# Altium footprint library Artemis_Plus.PcbLib: 25 footprints (part 2 of 2)
Each footprint in its own frame and in the unit in brackets; x right, y up, seen from the top. Pads: shape width x height; smd on the part's side, far side on the other; paste and mask are expansions set on the pad; w line width, h text height; cw(c..) or ccw(c..) is an arc to the next point about the centre after c.
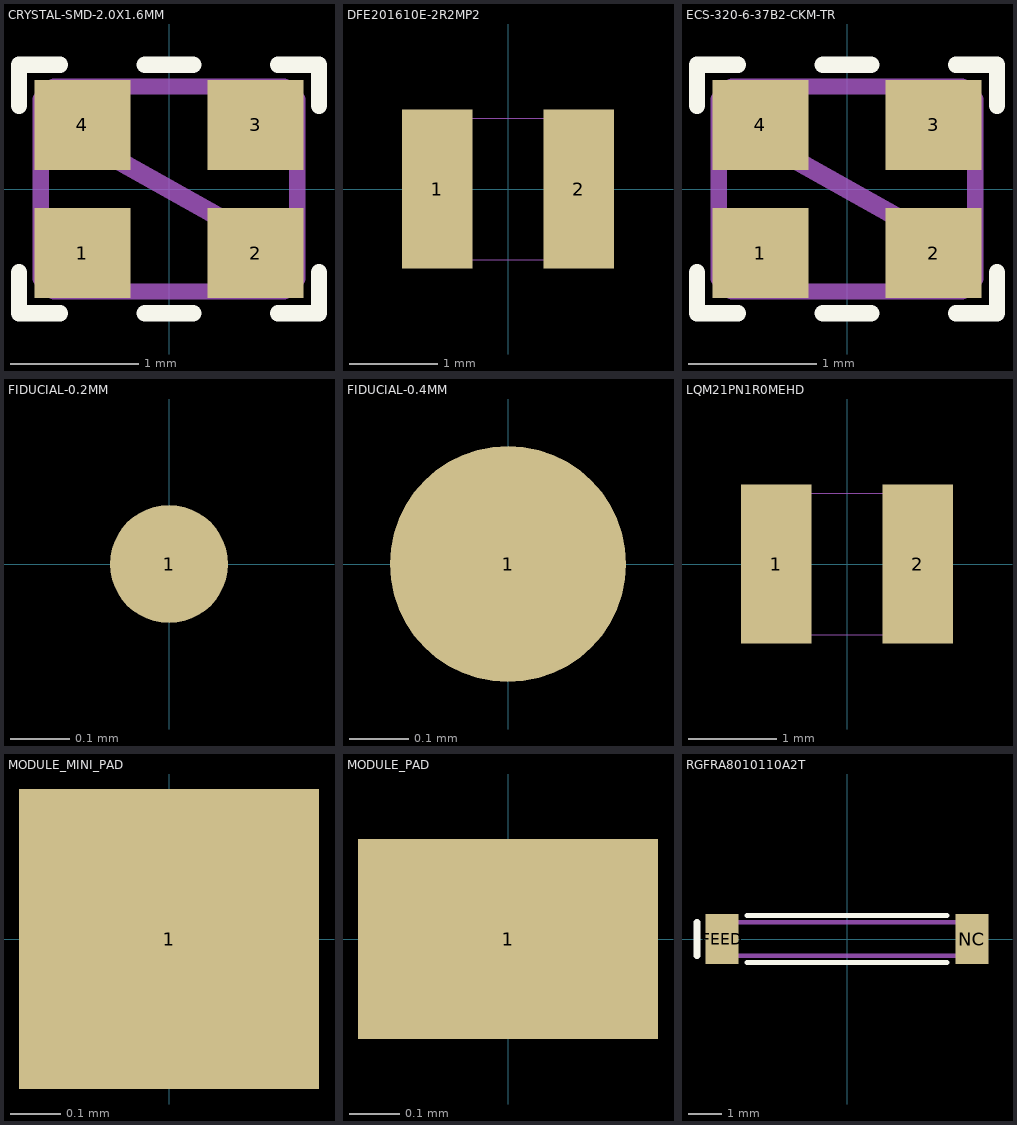
[diagram p1: the footprints below, top view; thin cyan lines are the x and y axes]

## CRYSTAL-SMD-2.0X1.6MM [mm] "CRYSTAL-SMD-2.0X1.6MM"
pads (4):
  rect 0.75x0.7 smd: 1(-0.675,-0.5) 2(0.675,-0.5) 3(0.675,0.5) 4(-0.675,0.5)
Top Overlay:
  lines w0.127: -1.17,-0.65 -1.17,-0.97 -0.85,-0.97 ; -1.17,0.65 -1.17,0.97 -0.85,0.97 ; -0.19,-0.97 0.19,-0.97 ; -0.19,0.97 0.19,0.97 ; 0.85,-0.97 1.17,-0.97 1.17,-0.65 ; 0.85,0.97 1.17,0.97 1.17,0.65
Top Component Outline (Mech3):
  region: 0.4,0.2 0.4,0.7 0.65,0.7 0.65,0.8 0.9,0.8 0.902,0.781 0.917,0.744 0.944,0.717 0.98,0.702 1,0.7 1,0.45 0.9,0.45 0.9,0.2
  region: -0.4,-0.2 -0.4,-0.7 -0.65,-0.7 -0.65,-0.8 -0.9,-0.8 -0.902,-0.781 -0.917,-0.745 -0.944,-0.717 -0.98,-0.702 -1,-0.7 -1,-0.45 -0.9,-0.45 -0.9,-0.2
  region: 0.4,-0.2 0.4,-0.7 0.65,-0.7 0.65,-0.8 0.9,-0.8 0.902,-0.781 0.917,-0.745 0.944,-0.717 0.98,-0.702 1,-0.7 1,-0.45 0.9,-0.45 0.9,-0.2
  region: -0.4,0.2 -0.4,0.7 -0.65,0.7 -0.65,0.8 -0.9,0.8 -0.902,0.781 -0.917,0.744 -0.944,0.717 -0.98,0.702 -1,0.7 -1,0.45 -0.9,0.45 -0.9,0.2
  region: 0.506,-0.2 -0.4,0.306 -0.506,0.2 0.4,-0.306
  lines w0.127: -1,-0.7 cw(c-1,-0.8) -0.9,-0.8 0.9,-0.8 cw(c1,-0.8) 1,-0.7 1,0.7 cw(c1,0.8) 0.9,0.8 -0.9,0.8 cw(c-1,0.8) -1,0.7 -1,-0.7

## DFE201610E-2R2MP2 [mil] "DFE201610E-2R2MP2 footprint"
pads (2):
  rect 31.5x70.87 smd: 1(-31.5,0) 2(31.5,0)
Top Component Outline (Mech3):
  lines w0.1: -39.37,-31.5 39.37,-31.5 39.37,31.5 -39.37,31.5 -39.37,-31.5
3D body "Ind_Murata_1285AS-H-1R0M=P2_eec.STEP": height 10, standoff 0, extent -84.76,-57.21 84.77,57.21

## ECS-320-6-37B2-CKM-TR [mm] "ECS-320-6-37B2-CKM-TR Footprint"
pads (4):
  rect 0.75x0.7 smd: 1(-0.675,-0.5) 2(0.675,-0.5) 3(0.675,0.5) 4(-0.675,0.5)
Top Overlay:
  lines w0.127: -1.17,-0.65 -1.17,-0.97 -0.85,-0.97 ; -1.17,0.65 -1.17,0.97 -0.85,0.97 ; -0.19,-0.97 0.19,-0.97 ; -0.19,0.97 0.19,0.97 ; 0.85,-0.97 1.17,-0.97 1.17,-0.65 ; 0.85,0.97 1.17,0.97 1.17,0.65
Top Component Outline (Mech3):
  region: 0.506,-0.2 -0.4,0.306 -0.506,0.2 0.4,-0.306
  region: -0.4,0.2 -0.4,0.7 -0.65,0.7 -0.65,0.8 -0.9,0.8 -0.902,0.781 -0.917,0.744 -0.944,0.717 -0.98,0.702 -1,0.7 -1,0.45 -0.9,0.45 -0.9,0.2
  region: 0.4,-0.2 0.4,-0.7 0.65,-0.7 0.65,-0.8 0.9,-0.8 0.902,-0.781 0.917,-0.745 0.944,-0.717 0.98,-0.702 1,-0.7 1,-0.45 0.9,-0.45 0.9,-0.2
  region: -0.4,-0.2 -0.4,-0.7 -0.65,-0.7 -0.65,-0.8 -0.9,-0.8 -0.902,-0.781 -0.917,-0.745 -0.944,-0.717 -0.98,-0.702 -1,-0.7 -1,-0.45 -0.9,-0.45 -0.9,-0.2
  region: 0.4,0.2 0.4,0.7 0.65,0.7 0.65,0.8 0.9,0.8 0.902,0.781 0.917,0.744 0.944,0.717 0.98,0.702 1,0.7 1,0.45 0.9,0.45 0.9,0.2
  lines w0.127: -1,-0.7 cw(c-1,-0.8) -0.9,-0.8 0.9,-0.8 cw(c1,-0.8) 1,-0.7 1,0.7 cw(c1,0.8) 0.9,0.8 -0.9,0.8 cw(c-1,0.8) -1,0.7 -1,-0.7
3D body "ECS-320-6-37B2-CKM-TR.step": height 0.5, standoff 0, extent -1,-0.8 1,0.8

## FIDUCIAL-0.2MM [mm] "FIDUCIAL-0.2MM"
pads (1):
  rrect100% 0.2x0.2 smd paste+0 mask+0: 1(0,0)

## FIDUCIAL-0.4MM [mm] "FIDUCIAL-0.4MM"
pads (1):
  rrect100% 0.4x0.4 smd paste+0 mask+0.025: 1(0,0)

## LQM21PN1R0MEHD [mil] "0805-WIDE"
pads (2):
  rect 31.5x70.87 smd: 1(-31.5,0) 2(31.5,0)
Top Component Outline (Mech3):
  lines w0.1: -39.37,-31.5 39.37,-31.5 39.37,31.5 -39.37,31.5 -39.37,-31.5
3D body "Ind_Murata_LQM21PNR24MEHB_eec.STEP": height 10, standoff 0, extent -83.82,-49.37 83.83,49.38

## MODULE_MINI_PAD [mm] "MODULE_MINI_PAD"
pads (1):
  rect 0.6x0.6 smd paste-0.6 mask+0.025: 1(0,0)

## MODULE_PAD [mm] "MODULE_PAD"
pads (1):
  rect 0.6x0.4 smd paste-0.4 mask+0.025: 1(0,0)

## RGFRA8010110A2T [mm] "RGFRA8010110A2T Footprint with 3D Model"
pads (2):
  rect 1x1.5 smd: FEED(-3.75,0) NC(3.75,0)
Top Overlay:
  lines w0.152: -3,-0.7 3,-0.7 ; -3,0.7 3,0.7
  lines w0.203: -4.5,-0.5 -4.5,0.5
Top Component Outline (Mech3):
  lines w0.127: -4,-0.5 -4,0.5 4,0.5 4,-0.5 -4,-0.5
3D body "RGFRA8010110A2T.step": height 1.11, standoff 0, extent -4,-0.5 4,0.5